# Altium integrated library UJC-HP-3-SMT-TR.IntLib: 1 symbol
Pins are listed as number, name and electrical type; pins without a type are passive.

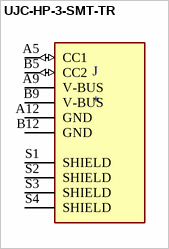
[diagram p0: symbol UJC-HP-3-SMT-TR]

## UJC-HP-3-SMT-TR
designator J
Type C, 3 A, Right Angle, Surface Mount _SMT_, Power Only USB Receptacle; MP: UJC-HP-3-SMT-TR; MF: CUI Devices; SnapEDA_Link: https://www.snapeda.com/parts/UJC-HP-3-SMT-TR/CUI%20Devices/view-part/4722774/?ref=snap; Availability: Unavailable; Value: *; Package: Package; Price: None
footprint CUI_UJC-HP-3-SMT-TR
pins: A5 CC1 (io), A9 V-BUS (power), A12 GND (power), B5 CC2 (io), B9 V-BUS (power), B12 GND (power), S1 SHIELD, S2 SHIELD, S3 SHIELD, S4 SHIELD